# EAGLE library part ADL5201 (library NewSDR)
Analog Devices 31.5 dB Range, 0.5 dB Step Size Programmable VGA (DVGA)
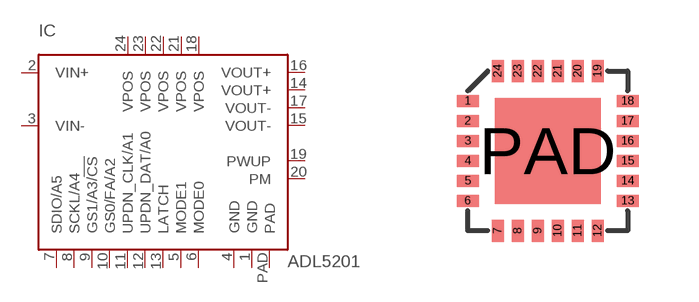
[diagram p184: symbol with the pads of LFCSP24; footprint LFCSP24]

Designator prefix IC

## ADL5201  [LFCSP24]
1  GND  pwr
2  VIN+  pas
3  VIN-  pas
4  GND  pwr
5  MODE1  in
6  MODE0  in
7  SDIO/A5  in
8  SCKL/A4  in
9  GS1/A3/!CS  in
10  GS0/FA/A2  in
11  UPDN_CLK/A1  in
12  UPDN_DAT/A0  in
13  LATCH  in
14  VOUT+  oc
15  VOUT-  oc
16  VOUT+  oc
17  VOUT-  oc
18  VPOS  pwr
19  PWUP  in
20  PM  in
21  VPOS  pwr
22  VPOS  pwr
23  VPOS  pwr
24  VPOS  pwr
PAD  PAD  pwr

## Footprint LFCSP24 (pad centres in mm)
smd 0.55 x 0.3: 1 -2,1.25; 2 -2,0.75; 3 -2,0.25; 4 -2,-0.25; 5 -2,-0.75; 6 -2,-1.25; 13 2,-1.25; 14 2,-0.75; 15 2,-0.25; 16 2,0.25; 17 2,0.75; 18 2,1.25
smd 0.3 x 0.55: 7 -1.25,-2; 8 -0.75,-2; 9 -0.25,-2; 10 0.25,-2; 11 0.75,-2; 12 1.25,-2; 19 1.25,2; 20 0.75,2; 21 0.25,2; 22 -0.25,2; 23 -0.75,2; 24 -1.25,2
smd 2.65 x 2.65: PAD 0,0